# Altium schematic symbol library SCH - MCU - NUVOTON - NUVOTON M0564VG4AE.SchLib: 1 symbol
Pins are listed as number, name and electrical type; pins without a type are passive.

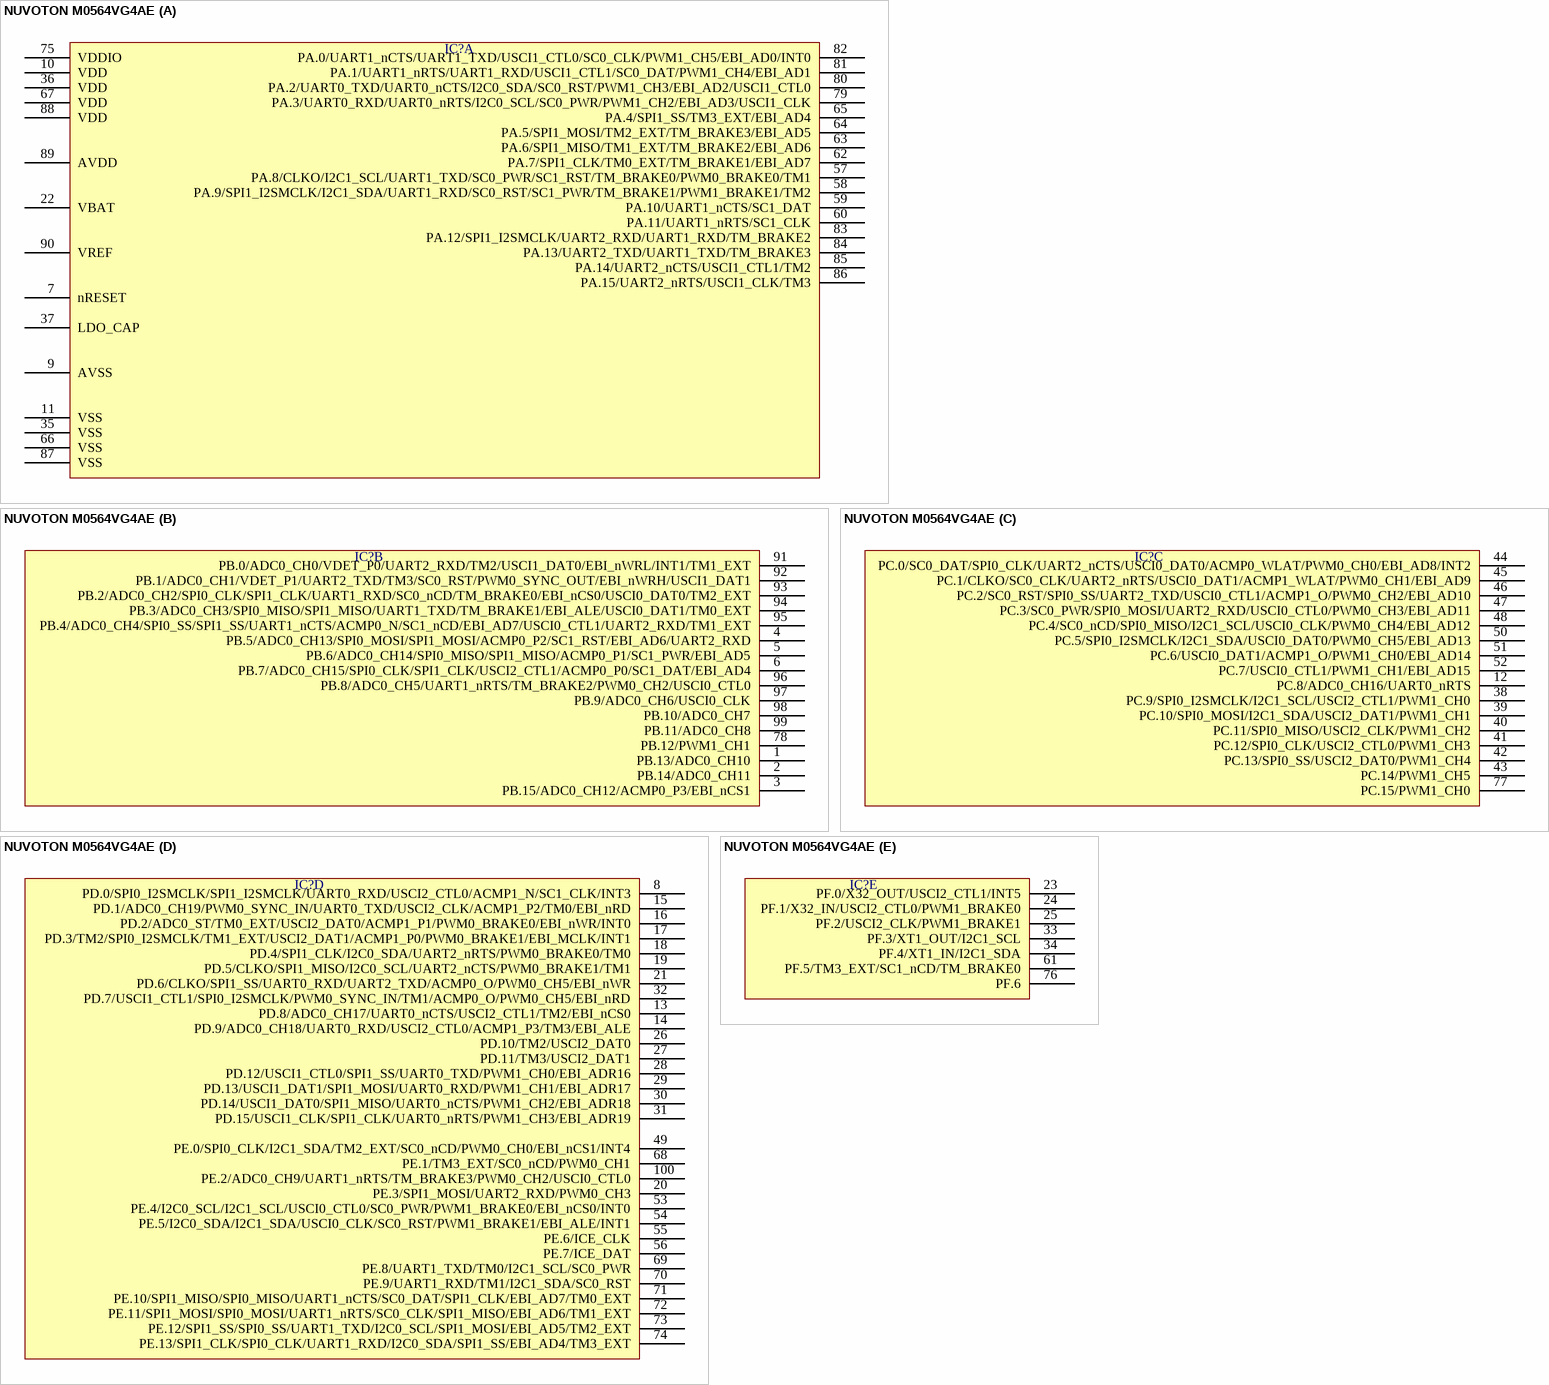
[diagram p0: symbol NUVOTON M0564VG4AE]

## NUVOTON M0564VG4AE
designator IC?  (value not drawn)
part A pins: 7 nRESET, 9 AVSS, 10 VDD, 11 VSS, 22 VBAT, 35 VSS, 36 VDD, 37 LDO_CAP, 57 PA.8/CLKO/I2C1_SCL/UART1_TXD/SC0_PWR/SC1_RST/TM_BRAKE0/PWM0_BRAKE0/TM1, 58 PA.9/SPI1_I2SMCLK/I2C1_SDA/UART1_RXD/SC0_RST/SC1_PWR/TM_BRAKE1/PWM1_BRAKE1/TM2, 59 PA.10/UART1_nCTS/SC1_DAT, 60 PA.11/UART1_nRTS/SC1_CLK, 62 PA.7/SPI1_CLK/TM0_EXT/TM_BRAKE1/EBI_AD7, 63 PA.6/SPI1_MISO/TM1_EXT/TM_BRAKE2/EBI_AD6, 64 PA.5/SPI1_MOSI/TM2_EXT/TM_BRAKE3/EBI_AD5, 65 PA.4/SPI1_SS/TM3_EXT/EBI_AD4, 66 VSS, 67 VDD, 75 VDDIO, 79 PA.3/UART0_RXD/UART0_nRTS/I2C0_SCL/SC0_PWR/PWM1_CH2/EBI_AD3/USCI1_CLK, 80 PA.2/UART0_TXD/UART0_nCTS/I2C0_SDA/SC0_RST/PWM1_CH3/EBI_AD2/USCI1_CTL0, 81 PA.1/UART1_nRTS/UART1_RXD/USCI1_CTL1/SC0_DAT/PWM1_CH4/EBI_AD1, 82 PA.0/UART1_nCTS/UART1_TXD/USCI1_CTL0/SC0_CLK/PWM1_CH5/EBI_AD0/INT0, 83 PA.12/SPI1_I2SMCLK/UART2_RXD/UART1_RXD/TM_BRAKE2, 84 PA.13/UART2_TXD/UART1_TXD/TM_BRAKE3, 85 PA.14/UART2_nCTS/USCI1_CTL1/TM2, 86 PA.15/UART2_nRTS/USCI1_CLK/TM3, 87 VSS, 88 VDD, 89 AVDD, 90 VREF
part B pins: 1 PB.13/ADC0_CH10, 2 PB.14/ADC0_CH11, 3 PB.15/ADC0_CH12/ACMP0_P3/EBI_nCS1, 4 PB.5/ADC0_CH13/SPI0_MOSI/SPI1_MOSI/ACMP0_P2/SC1_RST/EBI_AD6/UART2_RXD, 5 PB.6/ADC0_CH14/SPI0_MISO/SPI1_MISO/ACMP0_P1/SC1_PWR/EBI_AD5, 6 PB.7/ADC0_CH15/SPI0_CLK/SPI1_CLK/USCI2_CTL1/ACMP0_P0/SC1_DAT/EBI_AD4, 78 PB.12/PWM1_CH1, 91 PB.0/ADC0_CH0/VDET_P0/UART2_RXD/TM2/USCI1_DAT0/EBI_nWRL/INT1/TM1_EXT, 92 PB.1/ADC0_CH1/VDET_P1/UART2_TXD/TM3/SC0_RST/PWM0_SYNC_OUT/EBI_nWRH/USCI1_DAT1, 93 PB.2/ADC0_CH2/SPI0_CLK/SPI1_CLK/UART1_RXD/SC0_nCD/TM_BRAKE0/EBI_nCS0/USCI0_DAT0/TM2_EXT, 94 PB.3/ADC0_CH3/SPI0_MISO/SPI1_MISO/UART1_TXD/TM_BRAKE1/EBI_ALE/USCI0_DAT1/TM0_EXT, 95 PB.4/ADC0_CH4/SPI0_SS/SPI1_SS/UART1_nCTS/ACMP0_N/SC1_nCD/EBI_AD7/USCI0_CTL1/UART2_RXD/TM1_EXT, 96 PB.8/ADC0_CH5/UART1_nRTS/TM_BRAKE2/PWM0_CH2/USCI0_CTL0, 97 PB.9/ADC0_CH6/USCI0_CLK, 98 PB.10/ADC0_CH7, 99 PB.11/ADC0_CH8
part C pins: 12 PC.8/ADC0_CH16/UART0_nRTS, 38 PC.9/SPI0_I2SMCLK/I2C1_SCL/USCI2_CTL1/PWM1_CH0, 39 PC.10/SPI0_MOSI/I2C1_SDA/USCI2_DAT1/PWM1_CH1, 40 PC.11/SPI0_MISO/USCI2_CLK/PWM1_CH2, 41 PC.12/SPI0_CLK/USCI2_CTL0/PWM1_CH3, 42 PC.13/SPI0_SS/USCI2_DAT0/PWM1_CH4, 43 PC.14/PWM1_CH5, 44 PC.0/SC0_DAT/SPI0_CLK/UART2_nCTS/USCI0_DAT0/ACMP0_WLAT/PWM0_CH0/EBI_AD8/INT2, 45 PC.1/CLKO/SC0_CLK/UART2_nRTS/USCI0_DAT1/ACMP1_WLAT/PWM0_CH1/EBI_AD9, 46 PC.2/SC0_RST/SPI0_SS/UART2_TXD/USCI0_CTL1/ACMP1_O/PWM0_CH2/EBI_AD10, 47 PC.3/SC0_PWR/SPI0_MOSI/UART2_RXD/USCI0_CTL0/PWM0_CH3/EBI_AD11, 48 PC.4/SC0_nCD/SPI0_MISO/I2C1_SCL/USCI0_CLK/PWM0_CH4/EBI_AD12, 50 PC.5/SPI0_I2SMCLK/I2C1_SDA/USCI0_DAT0/PWM0_CH5/EBI_AD13, 51 PC.6/USCI0_DAT1/ACMP1_O/PWM1_CH0/EBI_AD14, 52 PC.7/USCI0_CTL1/PWM1_CH1/EBI_AD15, 77 PC.15/PWM1_CH0
part D pins: 8 PD.0/SPI0_I2SMCLK/SPI1_I2SMCLK/UART0_RXD/USCI2_CTL0/ACMP1_N/SC1_CLK/INT3, 13 PD.8/ADC0_CH17/UART0_nCTS/USCI2_CTL1/TM2/EBI_nCS0, 14 PD.9/ADC0_CH18/UART0_RXD/USCI2_CTL0/ACMP1_P3/TM3/EBI_ALE, 15 PD.1/ADC0_CH19/PWM0_SYNC_IN/UART0_TXD/USCI2_CLK/ACMP1_P2/TM0/EBI_nRD, 16 PD.2/ADC0_ST/TM0_EXT/USCI2_DAT0/ACMP1_P1/PWM0_BRAKE0/EBI_nWR/INT0, 17 PD.3/TM2/SPI0_I2SMCLK/TM1_EXT/USCI2_DAT1/ACMP1_P0/PWM0_BRAKE1/EBI_MCLK/INT1, 18 PD.4/SPI1_CLK/I2C0_SDA/UART2_nRTS/PWM0_BRAKE0/TM0, 19 PD.5/CLKO/SPI1_MISO/I2C0_SCL/UART2_nCTS/PWM0_BRAKE1/TM1, 20 PE.3/SPI1_MOSI/UART2_RXD/PWM0_CH3, 21 PD.6/CLKO/SPI1_SS/UART0_RXD/UART2_TXD/ACMP0_O/PWM0_CH5/EBI_nWR, 26 PD.10/TM2/USCI2_DAT0, 27 PD.11/TM3/USCI2_DAT1, 28 PD.12/USCI1_CTL0/SPI1_SS/UART0_TXD/PWM1_CH0/EBI_ADR16, 29 PD.13/USCI1_DAT1/SPI1_MOSI/UART0_RXD/PWM1_CH1/EBI_ADR17, 30 PD.14/USCI1_DAT0/SPI1_MISO/UART0_nCTS/PWM1_CH2/EBI_ADR18, 31 PD.15/USCI1_CLK/SPI1_CLK/UART0_nRTS/PWM1_CH3/EBI_ADR19, 32 PD.7/USCI1_CTL1/SPI0_I2SMCLK/PWM0_SYNC_IN/TM1/ACMP0_O/PWM0_CH5/EBI_nRD, 49 PE.0/SPI0_CLK/I2C1_SDA/TM2_EXT/SC0_nCD/PWM0_CH0/EBI_nCS1/INT4, 53 PE.4/I2C0_SCL/I2C1_SCL/USCI0_CTL0/SC0_PWR/PWM1_BRAKE0/EBI_nCS0/INT0, 54 PE.5/I2C0_SDA/I2C1_SDA/USCI0_CLK/SC0_RST/PWM1_BRAKE1/EBI_ALE/INT1, 55 PE.6/ICE_CLK, 56 PE.7/ICE_DAT, 68 PE.1/TM3_EXT/SC0_nCD/PWM0_CH1, 69 PE.8/UART1_TXD/TM0/I2C1_SCL/SC0_PWR, 70 PE.9/UART1_RXD/TM1/I2C1_SDA/SC0_RST, 71 PE.10/SPI1_MISO/SPI0_MISO/UART1_nCTS/SC0_DAT/SPI1_CLK/EBI_AD7/TM0_EXT, 72 PE.11/SPI1_MOSI/SPI0_MOSI/UART1_nRTS/SC0_CLK/SPI1_MISO/EBI_AD6/TM1_EXT, 73 PE.12/SPI1_SS/SPI0_SS/UART1_TXD/I2C0_SCL/SPI1_MOSI/EBI_AD5/TM2_EXT, 74 PE.13/SPI1_CLK/SPI0_CLK/UART1_RXD/I2C0_SDA/SPI1_SS/EBI_AD4/TM3_EXT, 100 PE.2/ADC0_CH9/UART1_nRTS/TM_BRAKE3/PWM0_CH2/USCI0_CTL0
part E pins: 23 PF.0/X32_OUT/USCI2_CTL1/INT5, 24 PF.1/X32_IN/USCI2_CTL0/PWM1_BRAKE0, 25 PF.2/USCI2_CLK/PWM1_BRAKE1, 33 PF.3/XT1_OUT/I2C1_SCL, 34 PF.4/XT1_IN/I2C1_SDA, 61 PF.5/TM3_EXT/SC1_nCD/TM_BRAKE0, 76 PF.6